# Altium footprint library SG__PCB_Chip.PcbLib: 121 footprints (part 5 of 8)
Each footprint in its own frame and in the unit in brackets; x right, y up, seen from the top. Pads: shape width x height; smd on the part's side, far side on the other; paste and mask are expansions set on the pad; w line width, h text height; cw(c..) or ccw(c..) is an arc to the next point about the centre after c.
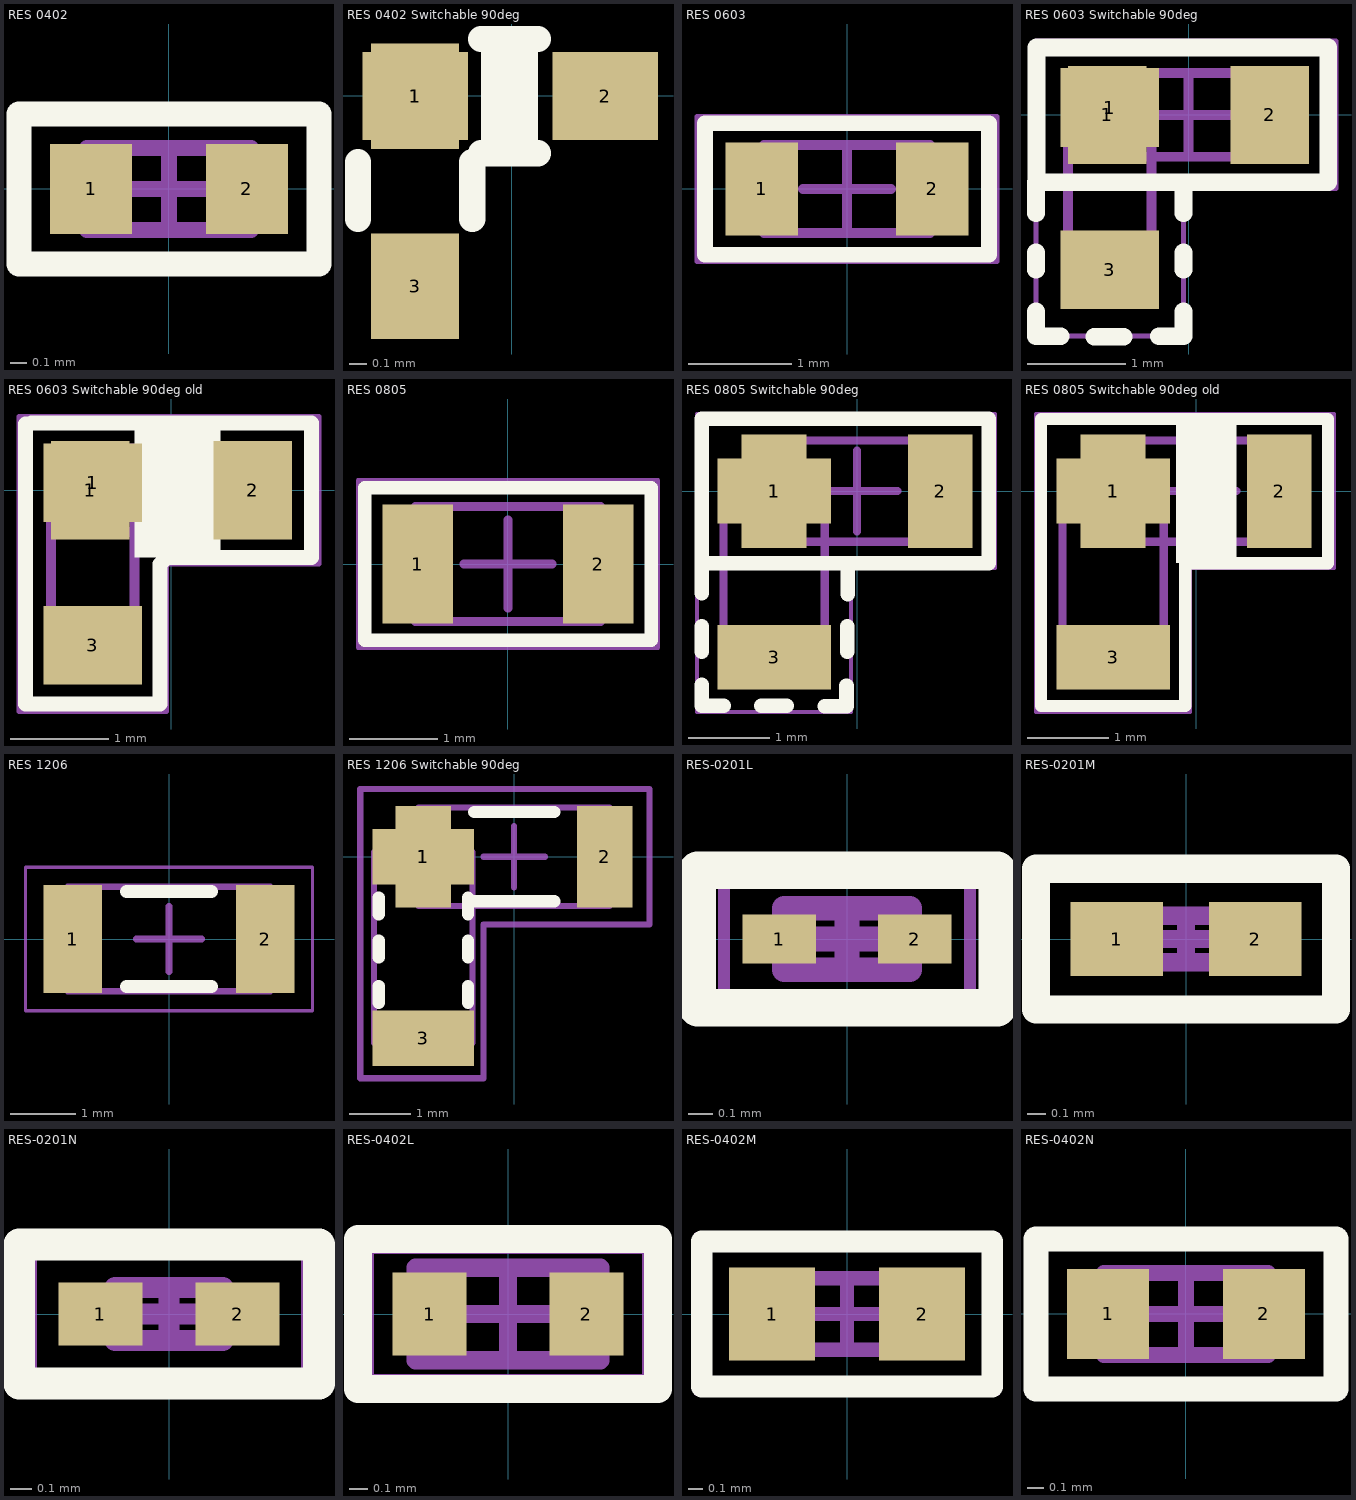
[diagram p4: the footprints below, top view; thin cyan lines are the x and y axes]

## RES 0402 [mm] "== RES-0402N"
pads (2):
  rect 0.5x0.55 smd: 1(-0.475,0) 2(0.475,0)
Top Overlay:
  lines w0.152: -0.914,-0.457 -0.914,0.457 0.914,0.457 0.914,-0.457 -0.914,-0.457
Assembly Top:
  lines w0.1: -0.5,-0.25 -0.5,0.25 0.5,0.25 0.5,-0.25 -0.5,-0.25
Courtyard Top:
  lines w0.05: -0.9,-0.45 -0.9,0.45 0.9,0.45 0.9,-0.45 -0.9,-0.45
  lines w0.1: -0.25,0 0.25,0 ; 0,-0.25 0,0.25
3D body "RESC1005X04N.step": height 0.35, standoff 0, extent -0.5,-0.25 0.5,0.25

## RES 0402 Switchable 90deg [mm] "chip res"
pads (4):
  rect 0.51x0.61 smd mask+0.05: 1(-0.558,-0.001) 3(-0.558,-1.101)
  rect 0.61x0.51 smd mask+0.05: 1(-0.558,-0.001) 2(0.542,-0.001)
Top Overlay:
  rectangle: -0.177,-0.332 0.153,0.329
  lines w0.152: -0.888,-0.713 -0.888,-0.382 ; -0.228,-0.713 -0.228,-0.382 ; -0.177,-0.332 0.153,-0.332 ; -0.177,0.329 0.153,0.329
3D body "RESC1005X04N.step": height 0.35, standoff 0, extent -0.5,-0.25 0.5,0.25

## RES 0603 [mm] "==RES-0603N"
pads (2):
  rect 0.7x0.9 smd: 1(-0.825,0) 2(0.825,0)
Top Overlay:
  lines w0.152: -1.372,-0.635 -1.372,0.635 1.372,0.635 1.372,-0.635 -1.346,-0.635
Assembly Top:
  lines w0.1: -0.8,-0.425 0.8,-0.425 0.8,0.425 -0.8,0.425 -0.8,-0.425
Courtyard Top:
  lines w0.05: -1.45,-0.7 1.45,-0.7 1.45,0.7 -1.45,0.7 -1.45,-0.7
  lines w0.1: -0.425,0 0.425,0 ; 0,-0.425 0,0.425
3D body "RESC1608X04N.step": height 0.45, standoff 0, extent -0.8,-0.425 0.8,0.425

## RES 0603 Switchable 90deg [mm] "Chip, 2-Leads, Body 1,60x0,85mm, IPC Medium Density"
height 0.9
pads (4):
  rect 0.8x1 smd: 1(-0.825,0) 2(0.825,0)
  rect 1x0.8 smd: 1(-0.8,0.075) 3(-0.8,-1.575)
Top Overlay:
  lines w0.18: -1.551,-1 -1.551,-0.686 ; -1.55,-2 -1.55,-2.25 -1.3,-2.25 ; -1.55,-1.575 -1.55,-1.4 ; -0.959,-2.257 -0.659,-2.257 ; -0.3,-2.25 -0.05,-2.25 -0.05,-2 ; -0.05,-1.575 -0.05,-1.4 ; -0.05,-1 -0.05,-0.686 -0.042,-0.686 ; -1.545,-0.686 1.422,-0.686 1.422,0.686 -1.545,0.686 -1.545,-0.686
Assembly Top:
  lines w0.1: -1.225,-1.55 -1.225,0.05 -0.375,0.05 -0.375,-1.55 -1.225,-1.55 ; -0.8,-0.425 0.8,-0.425 0.8,0.425 -0.8,0.425 -0.8,-0.425
Courtyard Top:
  lines w0.05: -1.55,-2.25 -1.55,0.75 -0.05,0.75 1.5,0.75 1.5,-0.75 -0.05,-0.75 -0.05,-2.25 -1.55,-2.25
  lines w0.1: -0.425,0 0.425,0 ; 0,-0.425 0,0.425
3D body "RESC1608X04N.step": height 0.45, standoff 0, extent -0.8,-0.425 0.8,0.425

## RES 0603 Switchable 90deg old [mm] "Chip, 2-Leads, Body 1,60x0,85mm, IPC Medium Density"
height 0.9
pads (4):
  rect 0.8x1 smd: 1(-0.825,0) 2(0.825,0)
  rect 1x0.8 smd: 1(-0.8,0.075) 3(-0.8,-1.575)
Top Overlay:
  rectangle: -0.375,-0.686 0.5,0.672
  lines w0.152: -1.486,0.672 -1.486,-2.172 -0.114,-2.172 -0.114,-0.749 -0.051,-0.686 1.422,-0.686 1.422,0.686 -1.422,0.686
Assembly Top:
  lines w0.1: -1.225,-1.55 -0.375,-1.55 -0.375,0.05 -1.225,0.05 -1.225,-1.55 ; -0.8,-0.425 -0.8,0.425 0.8,0.425 0.8,-0.425 -0.8,-0.425
Courtyard Top:
  lines w0.05: -1.55,-2.25 -0.05,-2.25 -0.05,-0.75 1.5,-0.75 1.5,0.75 -0.05,0.75 -1.55,0.75 -1.55,-2.25
  lines w0.1: -0.425,0 0.425,0 ; 0,-0.425 0,0.425
3D body "RESC1608X04N.step": height 0.45, standoff 0, extent -0.8,-0.425 0.8,0.425

## RES 0805 [mm] "== RES-0805N"
pads (2):
  rect 0.8x1.35 smd: 1(-1.025,0) 2(1.025,0)
Top Overlay:
  lines w0.152: -1.6,-0.864 1.626,-0.864 1.626,0.864 -1.626,0.864 -1.626,-0.864 -1.549,-0.864
Assembly Top:
  lines w0.1: -1.05,-0.65 -1.05,0.65 1.05,0.65 1.05,-0.65 -1.05,-0.65
Courtyard Top:
  lines w0.05: -1.7,-0.95 -1.7,0.95 1.7,0.95 1.7,-0.95 -1.7,-0.95
  lines w0.1: -0.5,0 0.5,0 ; 0,-0.5 0,0.5
3D body "RESC2113X05N.step": height 0.5, standoff 0, extent -1.05,-0.65 1.05,0.65

## RES 0805 Switchable 90deg [mm] "Chip, 2-Leads, Body 2,00x1,25mm, IPC Medium Density"
height 1.3
pads (4):
  rect 1.4x0.8 smd: 1(-1.025,0) 3(-1.025,-2.05)
  rect 0.8x1.4 smd: 1(-1.025,0) 2(1.025,0)
Top Overlay:
  lines w0.18: -1.915,-2.392 -1.915,-2.648 -1.645,-2.648 ; -1.914,-1.98 -1.914,-1.669 ; -1.914,-1.263 -1.914,0.889 ; -1.914,-0.889 1.626,-0.889 1.626,0.889 -1.914,0.889 ; -1.914,0.662 -1.914,0.889 ; -1.18,-2.648 -0.869,-2.648 ; -0.4,-2.656 -0.131,-2.656 -0.131,-2.4 ; -0.122,-1.98 -0.122,-1.669 ; -0.114,-1.271 -0.114,-0.897
Assembly Top:
  lines w0.1: -1.65,-2.025 -1.65,-0.025 -0.4,-0.025 -0.4,-2.025 -1.65,-2.025 ; -1,-0.625 1,-0.625 1,0.625 -1,0.625 -1,-0.625
Courtyard Top:
  lines w0.05: -1.975,-2.725 -1.975,0.95 1.7,0.95 1.7,-0.95 -0.075,-0.95 -0.075,-2.725 -1.975,-2.725
  lines w0.1: -0.5,0 0.5,0 ; 0,-0.5 0,0.5
3D body "RESC2113X05N.step": height 0.5, standoff 0, extent -1.05,-0.65 1.05,0.65

## RES 0805 Switchable 90deg old [mm] "Chip, 2-Leads, Body 2,00x1,25mm, IPC Medium Density"
height 1.3
pads (4):
  rect 1.4x0.8 smd: 1(-1.025,0) 3(-1.025,-2.05)
  rect 0.8x1.4 smd: 1(-1.025,0) 2(1.025,0)
Top Overlay:
  rectangle: -0.25,-0.889 0.5,0.889
  lines w0.152: -1.914,0.662 -1.914,0.889 ; -1.914,0.889 -1.914,-2.651 -0.136,-2.651 -0.136,-0.889 1.626,-0.889 1.626,0.889 -1.914,0.889
Assembly Top:
  lines w0.1: -1.65,-2.025 -1.65,-0.025 -0.4,-0.025 -0.4,-2.025 -1.65,-2.025 ; -1,-0.625 1,-0.625 1,0.625 -1,0.625 -1,-0.625
Courtyard Top:
  lines w0.05: -1.975,-2.725 -1.975,0.95 1.7,0.95 1.7,-0.95 -0.075,-0.95 -0.075,-2.725 -1.975,-2.725
  lines w0.1: -0.5,0 0.5,0 ; 0,-0.5 0,0.5
3D body "RESC2113X05N.step": height 0.5, standoff 0, extent -1.05,-0.65 1.05,0.65

## RES 1206 [mm] "Chip Resistor, 2-Leads, Body 3,10x1,60mm, IPC Medium Density"
height 0.55
pads (2):
  rect 0.9x1.65 smd: 1(-1.475,0) 2(1.475,0)
Top Overlay:
  lines w0.2: -0.65,-0.725 0.65,-0.725 ; -0.65,0.725 0.65,0.725
Assembly Top:
  lines w0.1: -1.55,-0.8 1.55,-0.8 1.55,0.8 -1.55,0.8 -1.55,-0.8
Courtyard Top:
  lines w0.05: -2.2,-1.1 2.2,-1.1 2.2,1.1 -2.2,1.1 -2.2,-1.1
  lines w0.1: -0.5,0 0.5,0 ; 0,-0.5 0,0.5
3D body "RESC3116X06N.step": height 0.55, standoff 0, extent -1.55,-0.8 1.55,0.8

## RES 1206 Switchable 90deg [mm] "Chip Resistor, 2-Leads, Body 3,10x1,60mm, IPC Medium Density"
height 0.55
pads (4):
  rect 1.65x0.9 smd: 1(-1.475,0) 3(-1.475,-2.95)
  rect 0.9x1.65 smd: 1(-1.475,0) 2(1.475,0)
Top Overlay:
  lines w0.2: -2.2,-2.375 -2.2,-2.1 ; -2.2,-1.637 -2.2,-1.362 ; -2.2,-0.938 -2.2,-0.663 ; -0.75,-2.375 -0.75,-2.1 ; -0.75,-1.638 -0.75,-1.362 ; -0.75,-0.938 -0.75,-0.663 ; -0.65,-0.725 0.65,-0.725 ; -0.65,0.725 0.65,0.725
Assembly Top:
  lines w0.1: -2.275,-3.025 -0.675,-3.025 -0.675,0.075 -2.275,0.075 -2.275,-3.025 ; -1.55,-0.8 -1.55,0.8 1.55,0.8 1.55,-0.8 -1.55,-0.8
Courtyard Top:
  lines w0.1: -0.5,0 0.5,0 ; 0,-0.5 0,0.5 ; -0.5,-1.1 -0.5,-3.6 -2.5,-3.6 -2.5,1.1 2.2,1.1 2.2,-1.1 -0.5,-1.1 ; -0.5,-1.1 -0.5,-1.1
3D body "RESC3116X06N.step": height 0.55, standoff 0, extent -1.55,-0.8 1.55,0.8

## RES-0201L [mm] "Chip Resistor, 2-Leads, Body 0,51x0,25mm, IPC High Density"
height 0.23
pads (2):
  rect 0.3x0.2 smd: 1(-0.275,0) 2(0.275,0)
Top Overlay:
  lines w0.152: -0.61,-0.279 -0.584,-0.279 0.61,-0.279 0.61,0.279 -0.61,0.279 -0.61,-0.279
Assembly Top:
  lines w0.1: -0.255,-0.125 -0.255,0.125 0.255,0.125 0.255,-0.125 -0.255,-0.125
Courtyard Top:
  lines w0.05: -0.5,-0.25 -0.5,0.25 0.5,0.25 0.5,-0.25 -0.5,-0.25
  lines w0.1: -0.125,0 0.125,0 ; 0,-0.125 0,0.125
3D body "RESC0503X02L.step": height 0.23, standoff 0, extent -0.255,-0.125 0.255,0.125

## RES-0201M [mm] "Chip Resistor, 2-Leads, Body 0,51x0,25mm, IPC Low Density"
height 0.23
pads (2):
  rect 0.5x0.4 smd: 1(-0.375,0) 2(0.375,0)
Top Overlay:
  lines w0.152: -0.813,-0.381 -0.813,0.381 0.813,0.381 0.813,-0.381 -0.813,-0.381
Assembly Top:
  lines w0.1: -0.255,-0.125 -0.255,0.125 0.255,0.125 0.255,-0.125 -0.255,-0.125
Courtyard Top:
  lines w0.05: -0.8,-0.4 -0.8,0.4 0.8,0.4 0.8,-0.4 -0.8,-0.4
  lines w0.1: -0.125,0 0.125,0 ; 0,-0.125 0,0.125
3D body "RESC0503X02M.step": height 0.23, standoff 0, extent -0.255,-0.125 0.255,0.125

## RES-0201N [mm] "Chip Resistor, 2-Leads, Body 0,51x0,25mm, IPC Medium Density"
height 0.23
pads (2):
  rect 0.4x0.3 smd: 1(-0.325,0) 2(0.325,0)
Top Overlay:
  lines w0.152: -0.711,-0.33 -0.711,0.33 0.711,0.33 0.711,-0.33 -0.711,-0.33
Assembly Top:
  lines w0.1: -0.255,-0.125 -0.255,0.125 0.255,0.125 0.255,-0.125 -0.255,-0.125
Courtyard Top:
  lines w0.05: -0.65,-0.3 -0.65,0.3 0.65,0.3 0.65,-0.3 -0.65,-0.3
  lines w0.1: -0.125,0 0.125,0 ; 0,-0.125 0,0.125
3D body "RESC0503X02N.step": height 0.23, standoff 0, extent -0.255,-0.125 0.255,0.125

## RES-0402L [mm] "Chip Resistor, 2-Leads, Body 1,00x0,50mm, IPC High Density"
height 0.35
pads (2):
  rect 0.4x0.45 smd: 1(-0.425,0) 2(0.425,0)
Top Overlay:
  lines w0.152: -0.813,-0.406 -0.813,0.406 0.813,0.406 0.813,-0.406 -0.813,-0.406
Assembly Top:
  lines w0.1: -0.5,-0.25 0.5,-0.25 0.5,0.25 -0.5,0.25 -0.5,-0.25
Courtyard Top:
  lines w0.05: -0.75,-0.35 0.75,-0.35 0.75,0.35 -0.75,0.35 -0.75,-0.35
  lines w0.1: -0.25,0 0.25,0 ; 0,-0.25 0,0.25
3D body "RESC1005X04L.step": height 0.35, standoff 0, extent -0.5,-0.25 0.5,0.25

## RES-0402M [mm] "Chip Resistor, 2-Leads, Body 1,00x0,50mm, IPC Low Density"
height 0.35
pads (2):
  rect 0.6x0.65 smd: 1(-0.525,0) 2(0.525,0)
Top Overlay:
  lines w0.152: -0.991,-0.508 1.016,-0.508 1.016,0.508 -1.016,0.508 -1.016,-0.508 -0.737,-0.508
Assembly Top:
  lines w0.1: -0.5,-0.25 -0.5,0.25 0.5,0.25 0.5,-0.25 -0.5,-0.25
Courtyard Top:
  lines w0.05: -1.05,-0.55 -1.05,0.55 1.05,0.55 1.05,-0.55 -1.05,-0.55
  lines w0.1: -0.25,0 0.25,0 ; 0,-0.25 0,0.25
3D body "RESC1005X04M.step": height 0.35, standoff 0, extent -0.5,-0.25 0.5,0.25

## RES-0402N [mm] "Chip Resistor, 2-Leads, Body 1,00x0,50mm, IPC Medium Density"
height 0.35
pads (2):
  rect 0.5x0.55 smd: 1(-0.475,0) 2(0.475,0)
Top Overlay:
  lines w0.152: -0.914,-0.457 0.914,-0.457 0.914,0.457 -0.914,0.457 -0.914,-0.457
Assembly Top:
  lines w0.1: -0.5,-0.25 0.5,-0.25 0.5,0.25 -0.5,0.25 -0.5,-0.25
Courtyard Top:
  lines w0.05: -0.9,-0.45 0.9,-0.45 0.9,0.45 -0.9,0.45 -0.9,-0.45
  lines w0.1: -0.25,0 0.25,0 ; 0,-0.25 0,0.25
3D body "RESC1005X04N.step": height 0.35, standoff 0, extent -0.5,-0.25 0.5,0.25